# EAGLE library part 6SL7GT-P (library radiotubes)
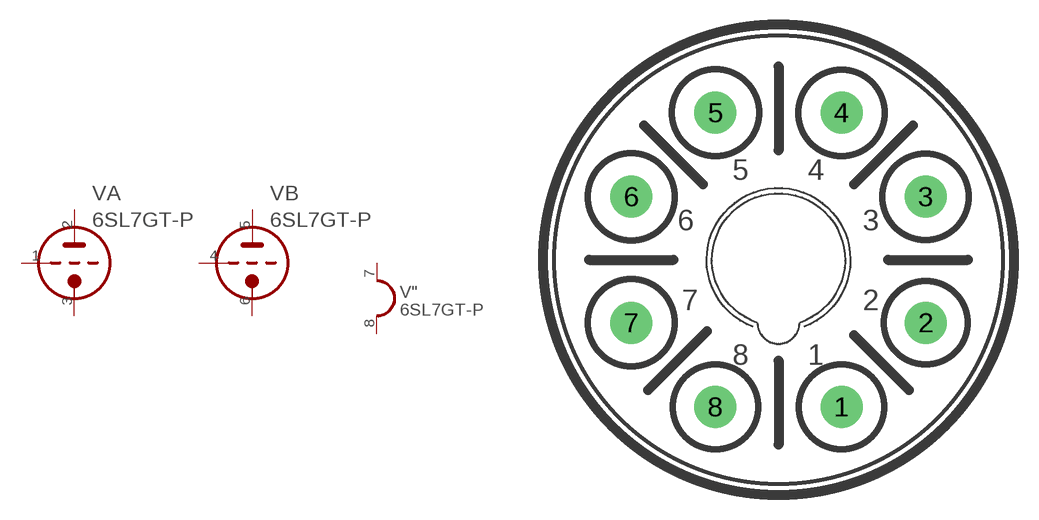
[diagram p35: symbol with the pads of OKTAL; footprint OKTAL]

Designator prefix V; gates A=TRIODE B=TRIODE "=HEATER_1

## 6SL7GT-P  [OKTAL]
1  A:G  pas
2  A:A  pas
3  A:K  pas
4  B:G  pas
5  B:A  pas
6  B:K  pas
7  ":H1  pas
8  ":H2  pas

## Footprint OKTAL (pad centres in mm)
drill 1.27 pad 2.54: 1 3.81,-8.89; 2 8.89,-3.81; 3 8.89,3.81; 4 3.81,8.89; 5 -3.81,8.89; 6 -8.89,3.81; 7 -8.89,-3.81; 8 -3.81,-8.89